# Altium footprint library NEC CONTROL BOARD.PcbLib: 7 footprints
Each footprint in its own frame and in the unit in brackets; x right, y up, seen from the top. Pads: shape width x height; smd on the part's side, far side on the other; paste and mask are expansions set on the pad; w line width, h text height; cw(c..) or ccw(c..) is an arc to the next point about the centre after c.
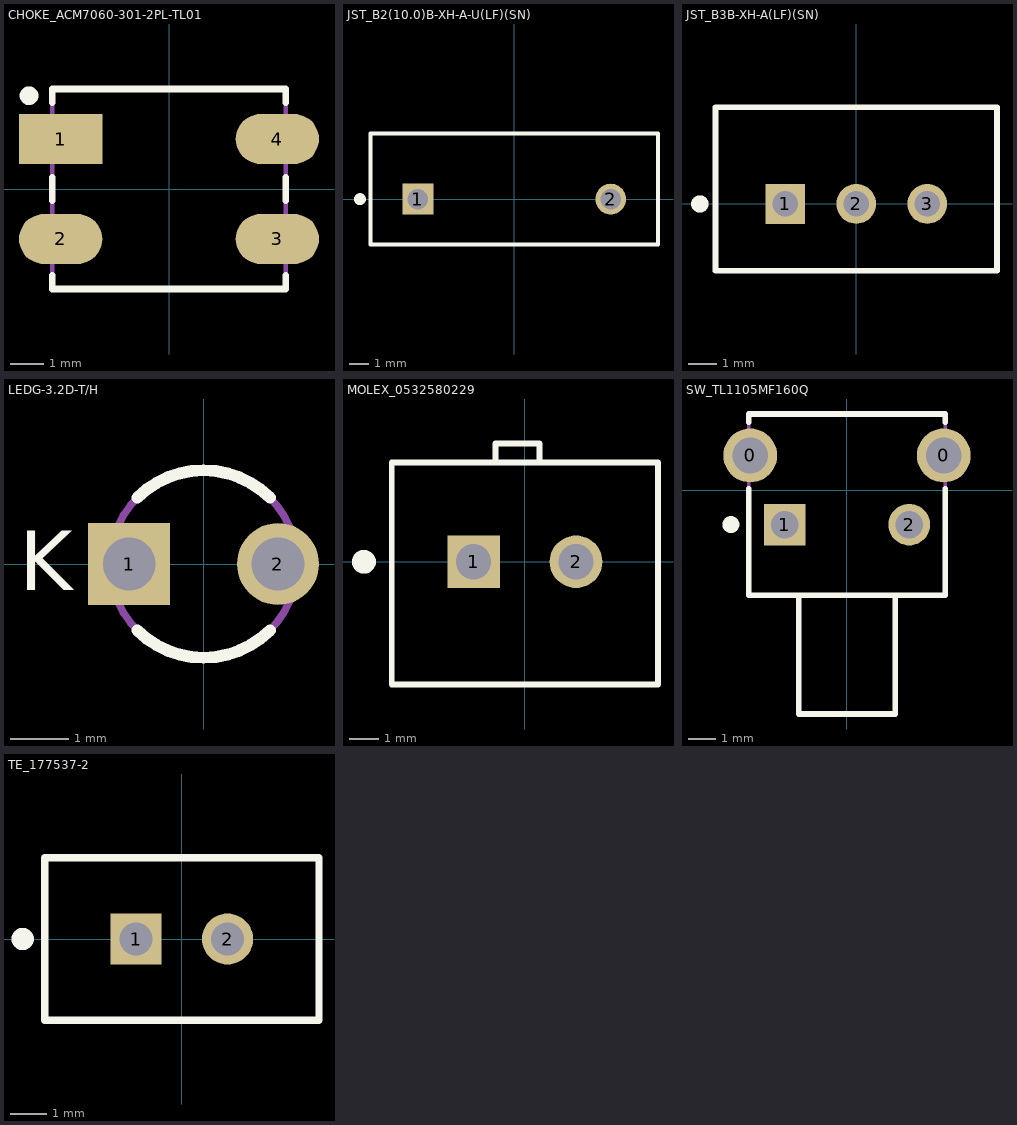
[diagram p0: the footprints below, top view; thin cyan lines are the x and y axes]

## CHOKE_ACM7060-301-2PL-TL01 [mm]
height 3.5
pads (4):
  rect 2.5x1.5 smd: 1(-3.25,1.5)
  oval 2.5x1.5 smd: 2(-3.25,-1.5) 3(3.25,-1.5) 4(3.25,1.5)
Top Overlay:
  circle w0.305: c-4.2,2.8 r0.127
  lines w0.203: -3.5,-2.591 -3.5,-3 3.5,-3 3.5,-2.591 ; -3.5,-0.35 -3.5,0.35 ; -3.5,2.591 -3.5,3 3.5,3 3.5,2.591 ; 3.5,-0.35 3.5,0.35
Mechanical 1:
  text ".Designator" at 0,0 h1.52
Mechanical 15 (Mech15):
  circle w0.305: c-3,1.5 r0.127
  lines w0.127: -3.5,-3 3.5,-3 3.5,3 -3.5,3 -3.5,-3
3D body: height 3.36, standoff 0.01, extent -3.5,-3 3.5,3

## JST_B2(10.0)B-XH-A-U(LF)(SN) [mm]
height 7
pads (2):
  rect 1.6x1.6 hole 1.05: 1(-5,0)
  round 1.6 hole 1.05: 2(5,0)
Top Overlay:
  circle w0.406: c-8,0 r0.102
  lines w0.203: -7.45,-2.35 7.45,-2.35 7.45,3.4 -7.45,3.4 -7.45,-2.35
Mechanical 1:
  text ".Designator" at 0,0 h1.52
Mechanical 15 (Mech15):
  circle w0.406: c-5,0 r0.102
  lines w0.127: -7.45,-2.35 7.45,-2.35 7.45,3.4 -7.45,3.4 -7.45,-2.35
3D body: height 7, standoff 0, extent -7.45,-2.35 7.45,3.4
3D body: height 7, standoff 0, extent -7.35,-2.25 -7.35,-2.25

## JST_B3B-XH-A(LF)(SN) [mm]
height 7
pads (3):
  rect 1.4x1.4 hole 0.9: 1(-2.5,0)
  round 1.4 hole 0.9: 2(0,0) 3(2.5,0)
Top Overlay:
  circle w0.406: c-5.5,0 r0.102
  lines w0.203: -4.95,-2.35 4.95,-2.35 4.95,3.4 -4.95,3.4 -4.95,-2.35
Mechanical 1:
  text ".Designator" at 0,0 h1.52
Mechanical 15 (Mech15):
  circle w0.406: c-2.5,0 r0.102
  lines w0.127: -4.95,-2.35 -4.95,3.4 4.95,3.4 4.95,-2.35 -4.95,-2.35
3D body: height 7, standoff -3.4, extent -4.95,-2.35 4.95,3.4

## LEDG-3.2D-T/H [mm]
height 5.9
pads (2):
  rect 1.4x1.4 hole 0.9: 1(-1.27,0)
  round 1.4 hole 0.9: 2(1.27,0)
Top Overlay:
  lines w0.203: -1.131,-1.131 ccw(c0,0) 1.131,-1.131 ; -1.131,1.131 cw(c0,0) 1.131,1.131
  text "K" at -3.15,-0.45 h1.02
Mechanical 1:
  text ".Designator" at 0,0 h1.52
Mechanical 15 (Mech15):
  circle w0.127: c0,0 r1.6
  text "K" at -1.3,-0.3 h1.02
3D body: height 5.41, standoff -26.19, extent -1.62,-1.6 1.62,1.6

## MOLEX_0532580229 [mm]
height 10.5
pads (2):
  rect 1.8x1.8 hole 1.2: 1(-1.75,0)
  round 1.8 hole 1.2: 2(1.75,0)
Top Overlay:
  circle w0.406: c-5.5,0 r0.203
  lines w0.203: -1,3.4 -1,4.05 0.5,4.05 0.5,3.4 ; -4.55,-4.2 -4.55,3.4 4.55,3.4 4.55,-4.2 -4.55,-4.2
Mechanical 1:
  text ".Designator" at 0,0 h1.52
Mechanical 15 (Mech15):
  circle w0.406: c-1.75,0 r0.102
  lines w0.127: -1,3.4 -1,4.05 0.5,4.05 0.5,3.4 ; -4.55,-4.2 -4.55,3.4 4.55,3.4 4.55,-4.2 -4.55,-4.2
3D body: height 10.51, standoff -3.49, extent -4.55,-4.2 4.55,4.05

## SW_TL1105MF160Q [mm] "SWITCH TACTILE SPST-NO 0.05A 12V"
height 7
pads (4):
  round 1.95 hole 1.3: 0(-3.5,1.25) 0(3.5,1.25)
  rect 1.508x1.508 hole 1: 1(-2.25,-1.25)
  round 1.508 hole 1: 2(2.25,-1.25)
Top Overlay:
  circle w0.406: c-4.2,-1.25 r0.102
  lines w0.203: -3.55,0.05 -3.55,-3.8 3.55,-3.8 3.55,0.05 ; -3.55,2.45 -3.55,2.75 3.55,2.75 3.55,2.45 ; -1.75,-3.8 -1.75,-8.1 1.75,-8.1 1.75,-3.8
Mechanical 1:
  text ".Designator" at 0,0 h1.52
Mechanical 15 (Mech15):
  circle w0.406: c-2.25,-1.25 r0.102
  lines w0.127: -1.75,-3.8 -1.75,-8.1 1.75,-8.1 1.75,-3.8 ; -3.55,-3.8 -3.55,2.75 3.55,2.75 3.55,-3.8 -3.55,-3.8
3D body: height 7.32, standoff -3.69, extent -4.198,-8.143 4.198,2.711

## TE_177537-2 [mm]
height 6.48
pads (2):
  rect 1.4x1.4 hole 0.9: 1(-1.25,0)
  round 1.4 hole 0.9: 2(1.25,0)
Top Overlay:
  circle w0.406: c-4.35,0 r0.102
  lines w0.203: -3.75,-2.225 3.75,-2.225 3.75,2.225 -3.75,2.225 -3.75,-2.225
Mechanical 1:
  text ".Designator" at 0,0 h1.52
Mechanical 15 (Mech15):
  circle w0.406: c-1.25,0 r0.102
  lines w0.127: -3.75,-2.225 -3.75,2.225 3.75,2.225 3.75,-2.225 -3.75,-2.225
3D body: height 6.49, standoff -3.16, extent -3.75,-2.225 3.75,2.225